# Altium schematic symbol library Communication Connectors.SchLib: 8 symbols
Pins are listed as number, name and electrical type; pins without a type are passive.

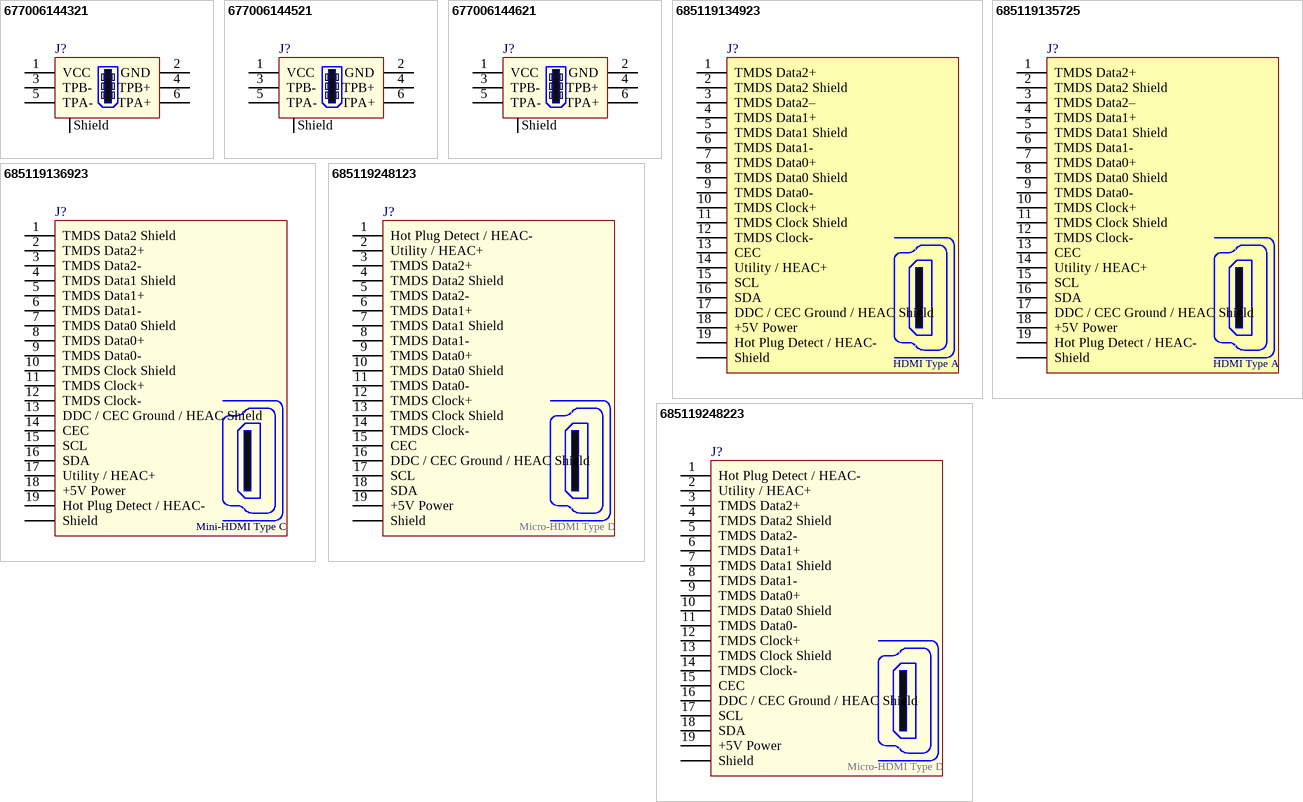
[diagram p0: symbols 677006144321 to 685119248223]

## 677006144321
designator J?
IEEE 1394 Up Right Receptacle WR-COM; Part number: 677006144321; Vendor: Wurth Elektronik; Value: -
footprint 677006144321 (IEEE 1394 Up Right Receptacle WR-COM)
pins: 1 VCC, 2 GND, 3 TPB-, 4 TPB+, 5 TPA-, 6 TPA+, Shell Shield

## 677006144521
designator J?
IEEE 1394 Horizontal Receptacle WR-COM; Part number: 677006144521; Vendor: Wurth Elektronik; Value: -
footprint 677006144521 (IEEE 1394 Horizontal Receptacle WR-COM)
pins: 1 VCC, 2 GND, 3 TPB-, 4 TPB+, 5 TPA-, 6 TPA+, Shell Shield

## 677006144621
designator J?
IEEE 1394 Vertical Receptacle WR-COM; Part number: 677006144621; Vendor: Wurth Elektronik; Value: -
footprint 677006144621 (IEEE 1394 Vertical Receptacle)
pins: 1 VCC, 2 GND, 3 TPB-, 4 TPB+, 5 TPA-, 6 TPA+, Shell Shield

## 685119134923
designator J?
HDMI SMT Horizontal WR-COM; Part number: 685119134923; Vendor: Wurth Elektronik; Value: Type A
footprint 685119134923 (HDMI SMT Horizontal)
pins: 1 TMDS Data2+, 2 TMDS Data2 Shield, 3 TMDS Data2–, 4 TMDS Data1+, 5 TMDS Data1 Shield, 6 TMDS Data1-, 7 TMDS Data0+, 8 TMDS Data0 Shield, 9 TMDS Data0-, 10 TMDS Clock+, 11 TMDS Clock Shield, 12 TMDS Clock-, 13 CEC, 14 Utility / HEAC+, 15 SCL, 16 SDA, 17 DDC / CEC Ground / HEAC Shield, 18 +5V Power, 19 Hot Plug Detect / HEAC-, Shell Shield
text: HDMI Type A

## 685119135725
designator J?
HDMI SMT Horizontal with M3 screw WR-COM; Part number: 685119135725; Vendor: Wurth Elektronik; Value: Type A
footprint 685119135725 (HDMI SMT Horizontal with M3 screw)
pins: 1 TMDS Data2+, 2 TMDS Data2 Shield, 3 TMDS Data2–, 4 TMDS Data1+, 5 TMDS Data1 Shield, 6 TMDS Data1-, 7 TMDS Data0+, 8 TMDS Data0 Shield, 9 TMDS Data0-, 10 TMDS Clock+, 11 TMDS Clock Shield, 12 TMDS Clock-, 13 CEC, 14 Utility / HEAC+, 15 SCL, 16 SDA, 17 DDC / CEC Ground / HEAC Shield, 18 +5V Power, 19 Hot Plug Detect / HEAC-, Shell Shield
text: HDMI Type A

## 685119136923
designator J?
Mini HDMI SMT Horizontal WR-COM; Part number: 685119136923; Vendor: Wurth Elektronik; Value: Type C
footprint 685119136923 (Mini HDMI SMT Horizontal)
pins: 1 TMDS Data2 Shield, 2 TMDS Data2+, 3 TMDS Data2-, 4 TMDS Data1 Shield, 5 TMDS Data1+, 6 TMDS Data1-, 7 TMDS Data0 Shield, 8 TMDS Data0+, 9 TMDS Data0-, 10 TMDS Clock Shield, 11 TMDS Clock+, 12 TMDS Clock-, 13 DDC / CEC Ground / HEAC Shield, 14 CEC, 15 SCL, 16 SDA, 17 Utility / HEAC+, 18 +5V Power, 19 Hot Plug Detect / HEAC-, Shell Shield
text: Mini-HDMI Type C

## 685119248123
designator J?
Micro HDMI Horizontal SMT WR-COM; Part number: 685119248123; Vendor: Wurth Elektronik; Value: Type D
footprint 685119248123 (Micro HDMI Horizontal SMT)
pins: 1 Hot Plug Detect / HEAC-, 2 Utility / HEAC+, 3 TMDS Data2+, 4 TMDS Data2 Shield, 5 TMDS Data2-, 6 TMDS Data1+, 7 TMDS Data1 Shield, 8 TMDS Data1-, 9 TMDS Data0+, 10 TMDS Data0 Shield, 11 TMDS Data0-, 12 TMDS Clock+, 13 TMDS Clock Shield, 14 TMDS Clock-, 15 CEC, 16 DDC / CEC Ground / HEAC Shield, 17 SCL, 18 SDA, 19 +5V Power, Shell Shield
text: Micro-HDMI Type D

## 685119248223
designator J?
Micro HDMI Horizontal SMT Hybrid Mount WR-COM; Part number: 685119248223; Vendor: Wurth Elektronik; Value: Type D
footprint 685119248223 (Micro HDMI Horizontal SMT Hybrid Mount)
pins: 1 Hot Plug Detect / HEAC-, 2 Utility / HEAC+, 3 TMDS Data2+, 4 TMDS Data2 Shield, 5 TMDS Data2-, 6 TMDS Data1+, 7 TMDS Data1 Shield, 8 TMDS Data1-, 9 TMDS Data0+, 10 TMDS Data0 Shield, 11 TMDS Data0-, 12 TMDS Clock+, 13 TMDS Clock Shield, 14 TMDS Clock-, 15 CEC, 16 DDC / CEC Ground / HEAC Shield, 17 SCL, 18 SDA, 19 +5V Power, Shell Shield
text: Micro-HDMI Type D